# Altium schematic symbol library TimerSwitch.SchLib: 20 symbols
Pins are listed as number, name and electrical type; pins without a type are passive.

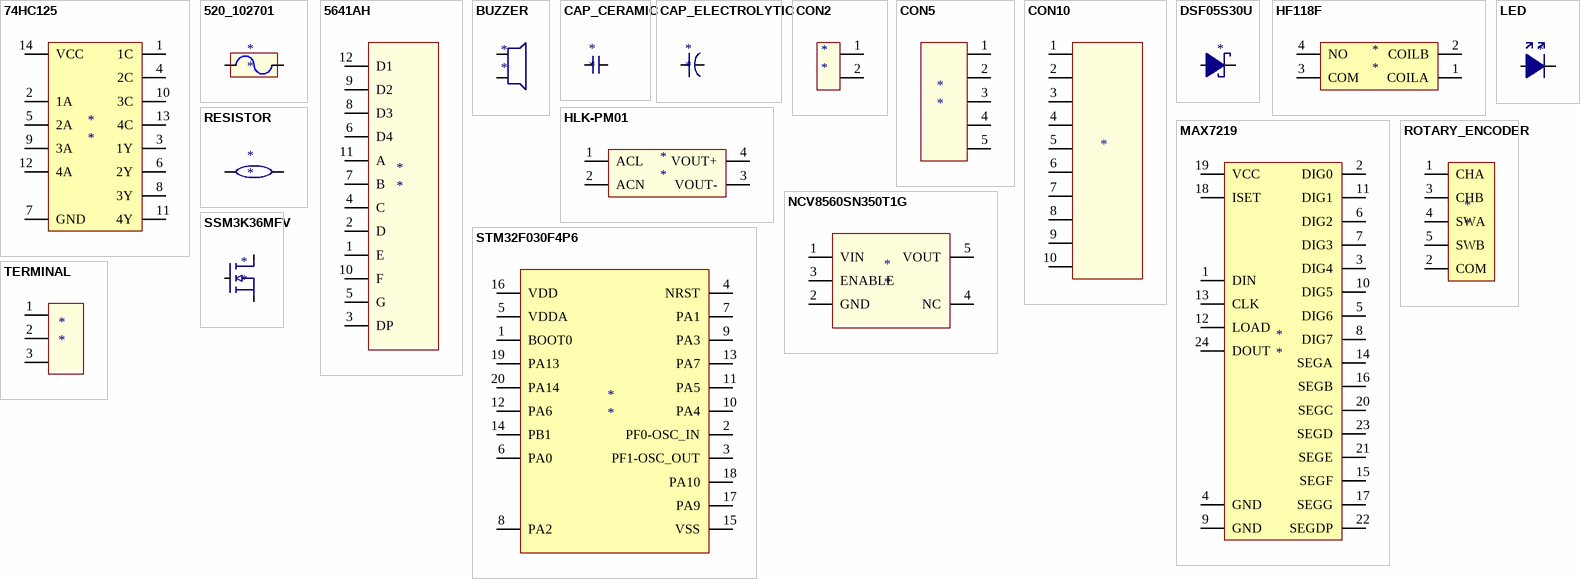
[diagram p0: symbols 74HC125 to TERMINAL]

## 74HC125
designator *
4 Channel level shifter
footprint SOIC127P600X175-14L (SOIC, 14-Leads, Body 8.65x3.90mm, Pitch 1.27mm, IPC High Density)
pins: 1 1C, 2 1A, 3 1Y, 4 2C, 5 2A, 6 2Y, 7 GND, 8 3Y, 9 3A, 10 3C, 11 4Y, 12 4A, 13 4C, 14 VCC

## 520_102701
designator *
5x20 5A fuse speed F
footprint 5x20 FUSE (5x20 FUSE, 5A, 240v, speed F)
pins: 1, 2

## 5641AH
designator *
7+1 x 4 Segment display
footprint 5641AH
pins: 1 E, 2 D, 3 DP, 4 C, 5 G, 6 D4, 7 B, 8 D3, 9 D2, 10 F, 11 A, 12 D1

## BUZZER
designator *
footprint PIEZO_BUZZER (Piezo buzzer)
pins: 1, 2

## CAP_CERAMIC
designator *
Ceramic capacitor; Value: *
footprint CAPC1608X07L (Chip Capacitor, 2-Leads, Body 1.60x0.80mm, IPC High Density)
footprint CAPC3216X07L (Chip Capacitor, 2-Leads, Body 3.20x1.60mm, IPC High Density)
pins: 1 A, 2 B

## CAP_ELECTROLYTIC
designator *
Electrolytic capacitor; Value: *
footprint CAPAE9585X105L (Aluminum Electrolytic Capacitor, Body 8.50x8.45x10.50mm, IPC High Density)
pins: 1 A, 2 C

## CON2
designator *
footprint CON2
pins: 1, 2

## CON5
designator *
footprint CON5 (2.54 3x2)
pins: 1, 2, 3, 4, 5

## CON10
designator *  (value not drawn)  (no BOM)
Debug connector
footprint CON6 (2.54 3x2)
pins: 1, 2, 3, 4, 5, 6, 7, 8, 9, 10

## DSF05S30U
designator *  (value not drawn)
Schottky Diode 20v 500mA; Alternate: CUS551V30
footprint SODFL250X100-2L (SODFL, 2-Leads, Body 1.25x2.50mm, IPC High Density)
pins: 1 C, 2 A

## HF118F
designator *
240V 10A Relay 5V
footprint G5RL-1-E-HR (16A 240v relay 5v coil 62.5ohm)
pins: 1 COILA, 2 COILB, 3 COM, 4 NO

## HLK-PM01
designator *
5V PSU 0.6A
footprint HLK-PM01 (5V PSU)
pins: 1 ACL, 2 ACN, 3 VOUT-, 4 VOUT+

## LED
designator *
5mm through hole LED
footprint LED (5MM through hole LED)
pins: 1 C, 2 A

## MAX7219
designator *
7 Segment LED Driver
footprint SOIC127P1030X265-24L (SOIC, 24-Leads, Body 15.40x7.50mm, Pitch 1.27mm, IPC High Density)
pins: 1 DIN, 2 DIG0, 3 DIG4, 4 GND, 5 DIG6, 6 DIG2, 7 DIG3, 8 DIG7, 9 GND, 10 DIG5, 11 DIG1, 12 LOAD, 13 CLK, 14 SEGA, 15 SEGF, 16 SEGB, 17 SEGG, 18 ISET, 19 VCC, 20 SEGC, 21 SEGE, 22 SEGDP, 23 SEGD, 24 DOUT

## NCV8560SN350T1G
designator *
3.5V 150mA LDO
footprint TSOP95P280X110-6L (TSOP, 6-Leads, Body 3.00x1.50mm, Pitch 0.95mm, IPC High Density)
pins: 1 VIN, 2 GND, 3 ENABLE, 4 NC, 5 VOUT

## RESISTOR
designator *
Resistor 1%; Value: *
footprint RESC1608X05L (Chip Resistor, 2-Leads, Body 1.60x0.80mm, IPC High Density)
pins: 1 A, 2 B

## ROTARY_ENCODER
designator *
Generic rotary encoder
pins: 1 CHA, 2 COM, 3 CHB, 4 SWA, 5 SWB

## SSM3K36MFV
designator *
MOSFET N
footprint SOT95P230X110-3L (SOT23, 3-Leads, Body 2.90x2.30mm, Pitch 0.95mm, IPC High Density)
pins: 1 G, 2 S, 3 D

## STM32F030F4P6
designator *
Microcontroller 4KB RAM 16KB Flash
footprint TSOP65P630X120-20L (TSOP, 20-Leads, Body 6.45x4.30mm, Pitch 0.65mm, IPC High Density)
pins: 1 BOOT0, 2 PF0-OSC_IN, 3 PF1-OSC_OUT, 4 NRST, 5 VDDA, 6 PA0, 7 PA1, 8 PA2, 9 PA3, 10 PA4, 11 PA5, 12 PA6, 13 PA7, 14 PB1, 15 VSS, 16 VDD, 17 PA9, 18 PA10, 19 PA13, 20 PA14

## TERMINAL
designator *
3 way terminal block
footprint TERMINAL_BLOCK (3 Way 5mm screw terminal block)
pins: 1, 2, 3